# Altium schematic symbol library Indikator_lib.SchLib: 7 symbols
Pins are listed as number, name and electrical type; pins without a type are passive.

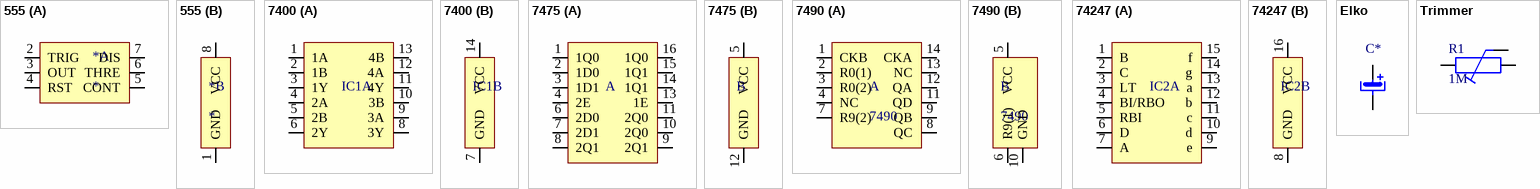
[diagram p0: symbols 555 to Trimmer]

## 555
designator *
part A pins: 2 TRIG, 3 OUT, 4 RST, 5 CONT, 6 THRE, 7 DIS
part B pins: 1 GND, 8 VCC

## 7400
designator IC1
part A pins: 1 1A, 2 1B, 3 1Y, 4 2A, 5 2B, 6 2Y, 8 3Y, 9 3A, 10 3B, 11 4Y, 12 4A, 13 4B
part B pins: 7 GND, 14 VCC

## 7475
designator ?
part A pins: 1 1Q0, 2 1D0, 3 1D1, 4 2E, 6 2D0, 7 2D1, 8 2Q1, 9 2Q1, 10 2Q0, 11 2Q0, 13 1E, 14 1Q1, 15 1Q1, 16 1Q0
part B pins: 5 VCC, 12 GND

## 7490
designator ?
part A pins: 1 CKB, 2 R0(1), 3 R0(2), 4 NC, 7 R9(2), 8 QC, 9 QB, 11 QD, 12 QA, 13 NC, 14 CKA
part B pins: 5 VCC, 6 R9(1), 10 GND

## 74247
designator IC2
part A pins: 1 B, 2 C, 3 LT, 4 BI/RBO, 5 RBI, 6 D, 7 A, 9 e, 10 d, 11 c, 12 b, 13 a, 14 g, 15 f
part B pins: 8 GND, 16 VCC

## Elko
designator C*  (value not drawn)
pins: 1 16 "+", 2

## Trimmer
designator R1, comment 1M
pins: 0, 1, 2